# EAGLE library part MIC2250YML (library Micrel)
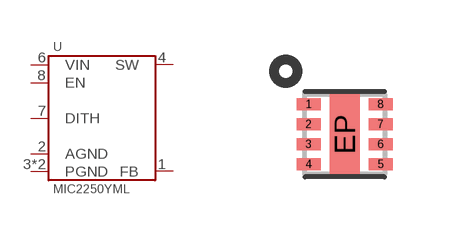
[diagram p1: symbol with the pads of MLF-8; footprint MLF-8]

Designator prefix U

## MIC2250YML  [MLF-8]
1  FB
2  AGND
3  PGND
4  SW
6  VIN
7  DITH
8  EN
EP  PGND

## Footprint MLF-8 (pad centres in mm)
smd 0.6 x 0.295: 1 -0.9,0.75; 2 -0.9,0.25; 3 -0.9,-0.25; 4 -0.9,-0.75; 5 0.9,-0.75; 6 0.9,-0.25; 7 0.9,0.25; 8 0.9,0.75
smd 0.75 x 2: EP 0,0